# Altium footprint library WRTU.PcbLib: 55 footprints (part 1 of 4)
Each footprint in its own frame and in the unit in brackets; x right, y up, seen from the top. Pads: shape width x height; smd on the part's side, far side on the other; paste and mask are expansions set on the pad; w line width, h text height; cw(c..) or ccw(c..) is an arc to the next point about the centre after c.
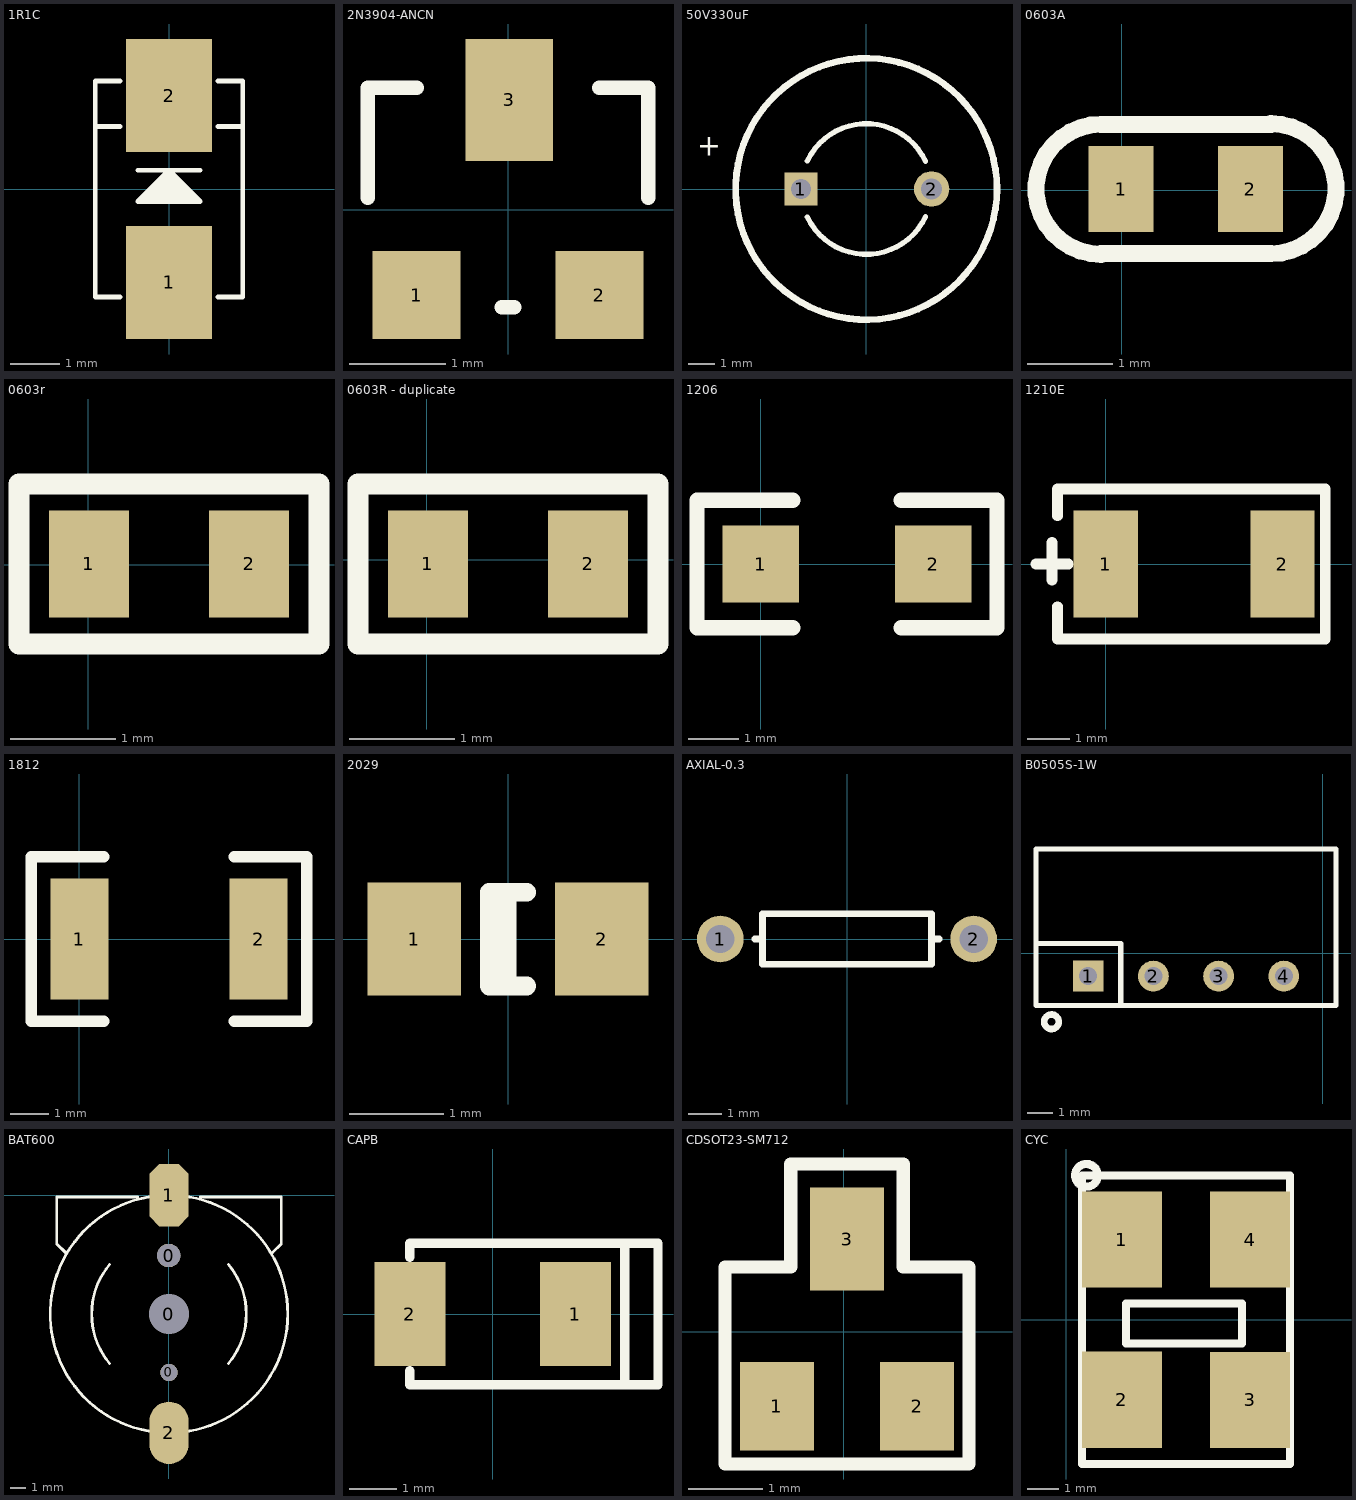
[diagram p0: the footprints below, top view; thin cyan lines are the x and y axes]

## 1R1C [mm]
pads (2):
  rect 1.75x2.3 smd: 1(0,-1.9) 2(0,1.9)
Top Overlay:
  lines w0.1: -1.5,1.27 -1,1.27 ; -1,-2.2 -1.5,-2.2 -1.5,2.2 -1,2.2 ; -0.635,0.381 0.635,0.381 ; -0.564,-0.183 0.477,-0.183 0.477,-0.096 -0.477,-0.096 ; -0.43,-0.049 0.43,-0.049 ; -0.37,0.011 0.37,0.011 ; -0.294,0.087 0.294,0.087 ; -0.213,0.168 0.213,0.168 ; -0.188,0.193 0.188,0.193 ; -0.025,0.087 -0.025,0.381 ; 0.051,-0.071 0.051,0.381 ; 1,-2.2 1.5,-2.2 1.5,2.2 1,2.2 ; 1,1.27 1.5,1.27 ; -0.635,-0.254 0,0.381 0.635,-0.254 -0.635,-0.254

## 2N3904-ANCN [mil] "MMBT3904"
pads (3):
  rect 36x36 smd: 1(-37.5,-35) 2(37.5,-35)
  rect 36x50 smd: 3(0.5,45)
Top Overlay:
  lines w6: -57.5,5 -57.5,50 -37.5,50 ; -2.5,-40 2.5,-40 ; 37.5,50 57.5,50 57.5,5

## 50V330uF [mm] "LH.NOVA"
pads (2):
  rect 1.25x1.25 hole 0.75: 1(-2.5,0)
  round 1.35 hole 0.8: 2(2.5,0)
Top Overlay:
  circle w0.254: c0,0 r5
  lines w0.2: -2.257,-1.075 ccw(c0,0) 2.269,-1.05 ; -2.257,1.075 cw(c0,0) 2.269,1.05
  text "+" at -6.477,1.27 h0.8

## 0603A [mil]
pads (2):
  rect 30x40 smd: 1(-0.39,0.65) 2(59.61,0.65)
Top Overlay:
  lines w7.87: -9.64,-29.63 cw(c-9.64,0.51) -9.64,30.65 69.1,30.65 ; -9.64,-29.35 69.1,-29.35 ccw(c69.1,0.8) 69.1,30.94

## 0603r [mil]
pads (2):
  rect 30x40 smd: 1(0.19,0.25) 2(60.19,0.25)
Top Overlay:
  lines w7.87: 86.33,-29.79 86.33,30.25 -25.95,30.25 -25.95,-29.75 86.33,-29.75

## 0603R - duplicate [mil]
pads (2):
  rect 30x40 smd: 1(0.5,-1.59) 2(60.5,-1.59)
Top Overlay:
  lines w7.87: 86.64,-31.63 86.64,28.41 -25.65,28.41 -25.65,-31.59 86.64,-31.59

## 1206 [mil]
pads (2):
  rect 60x60 smd: 1(0.21,0.13) 2(135.21,0.13)
Top Overlay:
  lines w12: 25.21,-49.87 -49.79,-49.87 -49.79,50.13 25.21,50.13 ; 110.21,-49.87 185.21,-49.87 185.21,50.13 110.21,50.13

## 1210E [mil]
pads (2):
  rect 60x100 smd: 1(0,0) 2(165,0)
Top Overlay:
  lines w10: -65,0 -35,0 ; -50,-15 -50,20 ; -45,-40 -45,-70 35,-70 130,-70 205,-70 205,70 130,70 35,70 -45,70 -45,45

## 1812 [mil]
pads (2):
  rect 60x125 smd: 1(0,0) 2(185,0)
Top Overlay:
  lines w12: 25,-85 -50,-85 -50,85 25,85 ; 160,-85 235,-85 235,85 160,85

## 2029 [mm] "Chip Inductor; Body 2 x 1.2 mm (LxW typ)"
height 0.55
pads (2):
  rect 1x1.2 smd: 1(-1,0) 2(1,0)
Top Overlay:
  lines w0.2: -0.01,-0.5 -0.01,0.5 ; 0.2,-0.5 -0.2,-0.5 -0.2,0.5 0.2,0.5

## AXIAL-0.3 [mm] "Resistor; 2 Leads"
height 1.524
pads (2):
  round 1.4 hole 0.85: 1(-3.81,0) 2(3.81,0)
Top Overlay:
  lines w0.2: -2.769,0 -2.54,0 ; 2.769,0 2.54,0 ; 2.54,0 2.54,0.762 -2.54,0.762 -2.54,-0.762 2.54,-0.762 2.54,0

## B0505S-1W [mm] "MORSUN"
pads (4):
  rect 1.2x1.2 hole 0.7: 1(-9.144,-0.889)
  round 1.2 hole 0.7: 2(-6.604,-0.889) 3(-4.064,-0.889) 4(-1.524,-0.889)
Top Overlay:
  circle w0.254: c-10.571,-2.667 r0.284
  lines w0.2: -11.176,0.381 -7.874,0.381 -7.874,-2.032 ; -11.176,-2.032 -11.176,4.064 0.508,4.064 0.508,-2.032 -11.176,-2.032

## BAT600 [mm]
pads (5):
  round 1.5 hole 1.5: 0(-0.022,-3.877)
  round 1.1 hole 1.1: 0(0.003,-11.377)
  round 2.54 hole 2.54: 0(0.003,-7.627)
  oct 2.5x4 smd: 1(0.003,-0.007)
  oval 2.5x4 smd: 2(0.003,-15.247)
Top Overlay:
  lines w0.178: -6.622,-3.702 -7.197,-3.127 -7.197,-0.127 -1.997,-0.127 ; -3.809,-10.799 cw(c0.003,-7.627) -3.807,-4.452 ; -0.83,-15.201 cw(c0.003,-7.627) -0.83,-0.052 ; 0.836,-15.201 ccw(c0.003,-7.627) 7.623,-7.627 ccw(c0.003,-7.627) 0.836,-0.052 ; 2.003,-0.127 7.203,-0.127 7.203,-3.127 6.603,-3.727 ; 3.815,-10.799 ccw(c0.003,-7.627) 3.818,-4.457

## CAPB [mm]
pads (2):
  rect 1.5x2.2 smd: 1(1.75,0) 2(-1.75,0)
Top Overlay:
  lines w0.2: -1.75,-1.2 -1.75,-1.5 1.75,-1.5 2.8,-1.5 ; -1.75,1.2 -1.75,1.5 1.75,1.5 2.8,1.5 ; 2.8,-1.5 2.8,1.5 ; 2.8,-1.5 3.5,-1.5 3.5,1.5 2.8,1.5

## CDSOT23-SM712 [mm] "Surface Mount TVS Diode"
pads (3):
  rect 1x1.2 smd: 1(-0.906,-1.008) 2(0.995,-1.008)
  rect 1x1.4 smd: 3(0.045,1.258)
Top Overlay:
  lines w0.178: -1.606,-1.79 -1.606,0.877 -0.717,0.877 -0.717,2.274 0.807,2.274 0.807,0.877 1.696,0.877 1.696,-1.79 -1.606,-1.79

## CYC [mil]
pads (4):
  rect 100x120 smd: 1(69.64,100) 2(69.66,-99.98) 3(229.64,-100) 4(229.64,100)
Top Overlay:
  circle w10: c25.46,180 r14.18
  lines w10: 19.64,-180 19.64,180 279.64,180 279.64,-180 19.64,-180 ; 74.66,-29.98 219.66,-29.98 219.66,20.02 74.66,20.02 74.66,-24.98 74.66,-29.98